# Altium footprint library PcbLib1.PcbLib: 264 footprints (part 9 of 17)
Each footprint in its own frame and in the unit in brackets; x right, y up, seen from the top. Pads: shape width x height; smd on the part's side, far side on the other; paste and mask are expansions set on the pad; w line width, h text height; cw(c..) or ccw(c..) is an arc to the next point about the centre after c.
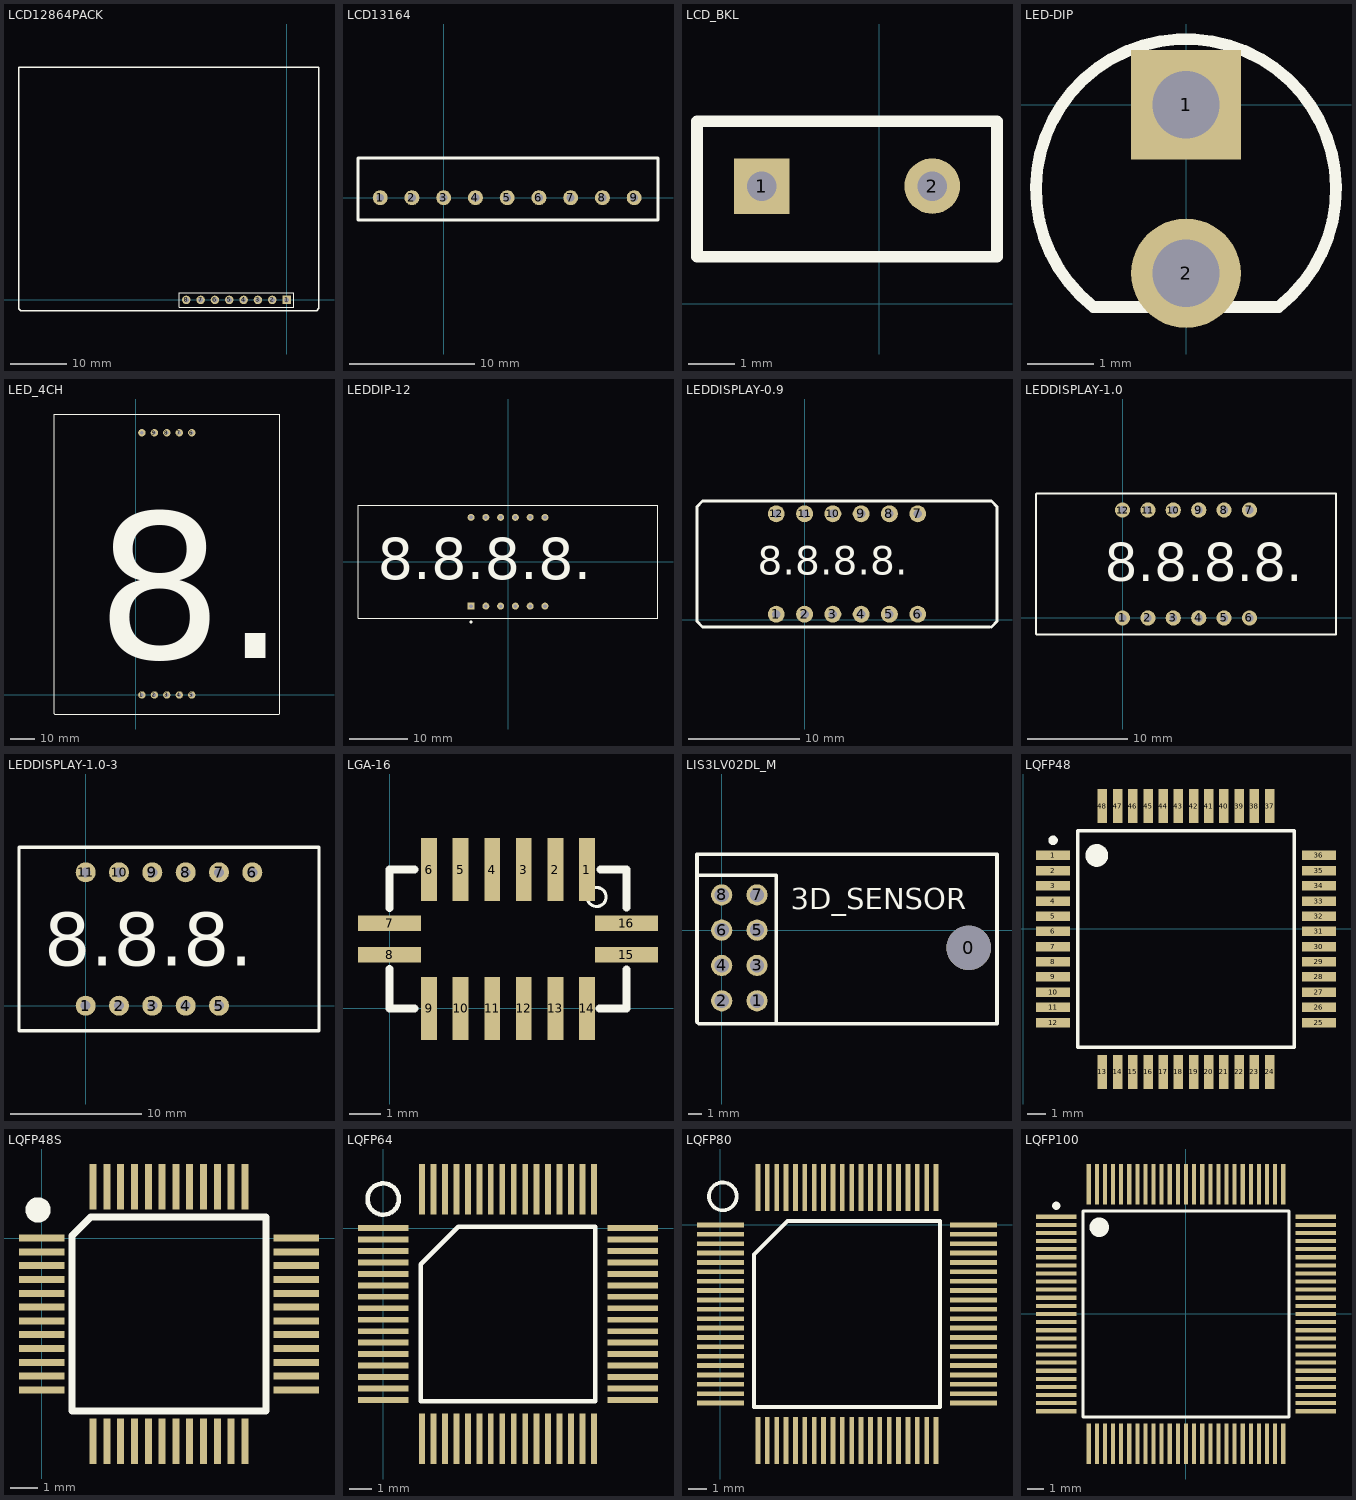
[diagram p8: the footprints below, top view; thin cyan lines are the x and y axes]

## LCD12864PACK [mm] "LCD12864"
pads (8):
  rect 1.5x1.5 hole 0.9: 1(0,0)
  round 1.5 hole 0.9: 2(-2.54,0) 3(-5.08,0) 4(-7.62,0) 5(-10.16,0) 6(-12.7,0) 7(-15.24,0) 8(-17.78,0)
Top Overlay:
  lines w0.2: -19.05,-1.27 -19.05,1.27 1.27,1.27 1.27,-1.27 -19.05,-1.27
  lines w0.254: -47.447,3.65 -47.447,41.247 5.753,41.247 ; -47.447,5.08 -47.447,-1.575 -47.117,-1.905 5.334,-1.905 5.753,-1.486 5.753,41.247 ; 5.753,3.683 5.753,41.247

## LCD13164 [mm] "LCD13164"
height 10
pads (9):
  round 1.2 hole 0.635: 1(-5.08,0) 2(-2.54,0) 3(0,0) 4(2.54,0) 5(5.08,0) 6(7.62,0) 7(10.16,0) 8(12.7,0) 9(15.24,0)
Top Overlay:
  lines w0.254: -2.794,-1.778 16.891,-1.778 ; -2.54,-1.778 -6.858,-1.778 -6.858,3.175 17.145,3.175 17.145,-1.524 17.145,-1.778 16.637,-1.778

## LCD_BKL [mm] "LCD_BACK_LIGHT"
height 4
pads (2):
  rect 1.2x1.2 hole 0.635: 1(-2.54,2.54)
  round 1.2 hole 0.635: 2(1.143,2.54)
Top Overlay:
  lines w0.254: -3.937,2.667 -3.937,3.937 2.54,3.937 2.54,1.016 -3.937,1.016 -3.937,3.81

## LED-DIP [mil] "PIN:2.54MM;H:5MM;"
height 196.85
pads (2):
  rect 65x65 hole 40: 1(0,0)
  round 65 hole 40: 2(0,-100)
Top Overlay:
  lines w7: -55,-120 cw(c0,-50) 55,-120 -55,-120

## LED_4CH [mm] "LED_4CH"
height 1.5
pads (10):
  round 3 hole 1.5: 1(2.54,0) 2(7.62,0) 3(12.7,0) 4(17.78,0) 5(22.86,0) 6(22.86,106.68) 7(17.78,106.68) 8(12.7,106.68) 9(7.62,106.68) 10(2.54,106.68)
Top Overlay:
  lines w0.254: 58.42,-7.747 -32.893,-7.747 -33.02,-7.62 -33.02,-6.604 -33.02,7.62 -33.02,114.3 58.547,114.3 58.547,-7.62
  text "8." at -16.002,14.859 h76.2

## LEDDIP-12 [mm] "LED, 7-Segment Display; 12 Pins; Row Space 15.24 mm; Pitch 2.54 mm"
height 8.26
pads (12):
  rect 1.2x1.2 hole 0.635: 1(-6.35,-7.62)
  round 1.2 hole 0.635: 2(-3.81,-7.62) 3(-1.27,-7.62) 4(1.27,-7.62) 5(3.81,-7.62) 6(6.35,-7.62) 7(6.35,7.62) 8(3.81,7.62) 9(1.27,7.62) 10(-1.27,7.62) 11(-3.81,7.62) 12(-6.35,7.62)
Top Overlay:
  circle w0.25: c-6.35,-10.35 r0.125
  lines w0.2: -25.75,-9.7 25.75,-9.7 25.75,9.7 -25.75,9.7 -25.75,-9.7
  text "8.8.8.8." at -22.352,-3.048 h7

## LEDDISPLAY-0.9 [mil]
height 19.68
pads (12):
  round 60 hole 30: 1(-100,20) 2(0,20) 3(100,20) 4(200,20) 5(300,20) 6(400,20) 7(400,375) 8(300,375) 9(200,375) 10(100,375) 11(0,375) 12(-100,375)
Top Overlay:
  lines w10: 655,-25 -360,-25 -380,-5 -380,400 -360,420 660,420 680,400 680,-5 660,-25
  text "8.8.8.8." at -165,160 h100

## LEDDISPLAY-1.0 [mil]
pads (12):
  round 60 hole 30: 1(0,0) 2(100,0) 3(200,0) 4(300,0) 5(400,0) 6(500,0) 7(500,425) 8(400,425) 9(300,425) 10(200,425) 11(100,425) 12(0,425)
Top Overlay:
  lines w7: 840.55,-65 -340,-65 -340.55,-64.45 -340.55,0 -340.55,489.45 -340,490 840.55,490 ; 840.55,-64.45 840.55,0 840.55,489.45
  text "8.8.8.8." at -70,145 h150

## LEDDISPLAY-1.0-3 [mil] "PLTT-3361AS"
height 275.59
pads (11):
  round 60 hole 30: 1(0,0) 2(100,0) 3(200,0) 4(300,0) 5(400,0) 6(500,400) 7(400,400) 8(300,400) 9(200,400) 10(100,400) 11(0,400)
Top Overlay:
  lines w10: -200,-75 700,-75 700,475 -200,475 -200,-75
  text "8.8.8." at -125,120 h160

## LGA-16 [mm] "ECOPACK"
height 1
pads (16):
  rect 0.5x2 smd: 1(6.25,4.4) 2(5.25,4.4) 3(4.25,4.4) 4(3.25,4.4) 5(2.25,4.4) 6(1.25,4.4) 9(1.25,0) 10(2.25,0) 11(3.25,0) 12(4.25,0) 13(5.25,0) 14(6.25,0)
  rect 2x0.5 smd: 7(0,2.7) 8(0,1.7) 15(7.5,1.7) 16(7.5,2.7)
Top Overlay:
  circle w0.1: c6.558,3.531 r0.3
  lines w0.254: 0,1.245 0,0 0.787,0 ; 0,3.175 0,4.4 0.782,4.4 ; 6.655,0 7.5,0 7.5,1.238 ; 6.686,4.4 7.5,4.4 7.5,3.193

## LIS3LV02DL_M [mil] "LIS3LV02DL"
height 590.55
pads (9):
  round 125.98 hole 125.98: 0(700,-50)
  round 60 hole 40: 1(100,-200) 2(0,-200) 3(100,-100) 4(0,-100) 5(100,0) 6(0,0) 7(100,100) 8(0,100)
Top Overlay:
  lines w10: -70,155 155,155 155,-265 ; -20,215 700,215 780,215 780,-265 700,-265 -45,-265 -65,-265 -70,-260 -70,200 -70,215 0,215 ; 780,-260 780,200
  text "3D_SENSOR" at 195,60 h60

## LQFP48 [mm] "DPIN-0.8MM"
height 1
pads (48):
  rect 1.8x0.5 smd: 1(1.56,3.867) 2(1.56,3.067) 3(1.56,2.267) 4(1.56,1.467) 5(1.56,0.667) 6(1.56,-0.133) 7(1.56,-0.933) 8(1.56,-1.733) 9(1.56,-2.533) 10(1.56,-3.333) 11(1.56,-4.133) 12(1.56,-4.933) 25(15.56,-4.933) 26(15.56,-4.133) 27(15.56,-3.333) 28(15.56,-2.533) 29(15.56,-1.733) 30(15.56,-0.933) 31(15.56,-0.133) 32(15.56,0.667) 33(15.56,1.467) 34(15.56,2.267) 35(15.56,3.067) 36(15.56,3.867)
  rect 0.5x1.8 smd: 13(4.16,-7.533) 14(4.96,-7.533) 15(5.76,-7.533) 16(6.56,-7.533) 17(7.36,-7.533) 18(8.16,-7.533) 19(8.96,-7.533) 20(9.76,-7.533) 21(10.56,-7.533) 22(11.36,-7.533) 23(12.16,-7.533) 24(12.96,-7.533) 37(12.96,6.467) 38(12.16,6.467) 39(11.36,6.467) 40(10.56,6.467) 41(9.76,6.467) 42(8.96,6.467) 43(8.16,6.467) 44(7.36,6.467) 45(6.56,6.467) 46(5.76,6.467) 47(4.96,6.467) 48(4.16,6.467)
Top Overlay:
  circle w0.25: c1.56,4.667 r0.125
  circle w0.6: c3.86,3.867 r0.3
  lines w0.2: 2.86,-6.233 14.26,-6.233 14.26,5.167 2.86,5.167 2.86,-6.233

## LQFP48S [mil] "DPIN-0.5"
height 39.37
pads (48):
  rect 65x10 smd: 1(0.42,0.29) 2(0.42,-19.39) 3(0.42,-39.08) 4(0.42,-58.76) 5(0.42,-78.45) 6(0.42,-98.13) 7(0.42,-117.82) 8(0.42,-137.5) 9(0.42,-157.19) 10(0.42,-176.87) 11(0.42,-196.56) 12(0.42,-216.24) 25(362.63,-216.24) 26(362.63,-196.56) 27(362.63,-176.87) 28(362.63,-157.19) 29(362.63,-137.5) 30(362.63,-117.82) 31(362.63,-98.13) 32(362.63,-78.45) 33(362.63,-58.76) 34(362.63,-39.08) 35(362.63,-19.39) 36(362.63,0.29)
  rect 10x65 smd: 13(73.26,-289.08) 14(92.94,-289.08) 15(112.63,-289.08) 16(132.31,-289.08) 17(152,-289.08) 18(171.68,-289.08) 19(191.37,-289.08) 20(211.05,-289.08) 21(230.74,-289.08) 22(250.42,-289.08) 23(270.11,-289.08) 24(289.79,-289.08) 37(289.79,73.13) 38(270.11,73.13) 39(250.42,73.13) 40(230.74,73.13) 41(211.05,73.13) 42(191.37,73.13) 43(171.68,73.13) 44(152,73.13) 45(132.31,73.13) 46(112.63,73.13) 47(92.94,73.13) 48(73.26,73.13)
Top Overlay:
  circle w25: c-4.93,40.29 r5.35
  lines w10: 43.73,-245.77 319.32,-245.77 319.32,29.82 69.95,29.82 43.73,3.6 43.73,-245.77

## LQFP64 [mm] "LQFP64"
height 2
pads (64):
  rect 2.2x0.254 smd: 1(0,0) 2(0,-0.5) 3(0,-1) 4(0,-1.5) 5(0,-2) 6(0,-2.5) 7(0,-3) 8(0,-3.5) 9(0,-4) 10(0,-4.5) 11(0,-5) 12(0,-5.5) 13(0,-6) 14(0,-6.5) 15(0,-7) 16(0,-7.5) 33(10.9,-7.5) 34(10.9,-7) 35(10.9,-6.5) 36(10.9,-6) 37(10.9,-5.5) 38(10.9,-5) 39(10.9,-4.5) 40(10.9,-4) 41(10.9,-3.5) 42(10.9,-3) 43(10.9,-2.5) 44(10.9,-2) 45(10.9,-1.5) 46(10.9,-1) 47(10.9,-0.5) 48(10.9,0)
  rect 0.254x2.2 smd: 17(1.7,-9.2) 18(2.2,-9.2) 19(2.7,-9.2) 20(3.2,-9.2) 21(3.7,-9.2) 22(4.2,-9.2) 23(4.7,-9.2) 24(5.2,-9.2) 25(5.7,-9.2) 26(6.2,-9.2) 27(6.7,-9.2) 28(7.2,-9.2) 29(7.7,-9.2) 30(8.2,-9.2) 31(8.7,-9.2) 32(9.2,-9.2) 49(9.2,1.7) 50(8.7,1.7) 51(8.2,1.7) 52(7.7,1.7) 53(7.2,1.7) 54(6.7,1.7) 55(6.2,1.7) 56(5.7,1.7) 57(5.2,1.7) 58(4.7,1.7) 59(4.2,1.7) 60(3.7,1.7) 61(3.2,1.7) 62(2.7,1.7) 63(2.2,1.7) 64(1.7,1.7)
Top Overlay:
  circle w0.2: c0,1.27 r0.684
  lines w0.2: 1.635,-7.565 9.265,-7.565 9.265,0.065 3.27,0.065 1.635,-1.57 1.635,-7.565

## LQFP80 [mm]
height 1
pads (80):
  rect 2.5x0.254 smd: 1(0,0) 2(0,-0.5) 3(0,-1) 4(0,-1.5) 5(0,-2) 6(0,-2.5) 7(0,-3) 8(0,-3.5) 9(0,-4) 10(0,-4.5) 11(0,-5) 12(0,-5.5) 13(0,-6) 14(0,-6.5) 15(0,-7) 16(0,-7.5) 17(0,-8) 18(0,-8.5) 19(0,-9) 20(0,-9.5) 41(13.5,-9.5) 42(13.5,-9) 43(13.5,-8.5) 44(13.5,-8) 45(13.5,-7.5) 46(13.5,-7) 47(13.5,-6.5) 48(13.5,-6) 49(13.5,-5.5) 50(13.5,-5) 51(13.5,-4.5) 52(13.5,-4) 53(13.5,-3.5) 54(13.5,-3) 55(13.5,-2.5) 56(13.5,-2) 57(13.5,-1.5) 58(13.5,-1) 59(13.5,-0.5) 60(13.5,0)
  rect 0.254x2.5 smd: 21(2,-11.5) 22(2.5,-11.5) 23(3,-11.5) 24(3.5,-11.5) 25(4,-11.5) 26(4.5,-11.5) 27(5,-11.5) 28(5.5,-11.5) 29(6,-11.5) 30(6.5,-11.5) 31(7,-11.5) 32(7.5,-11.5) 33(8,-11.5) 34(8.5,-11.5) 35(9,-11.5) 36(9.5,-11.5) 37(10,-11.5) 38(10.5,-11.5) 39(11,-11.5) 40(11.5,-11.5) 61(11.5,2) 62(11,2) 63(10.5,2) 64(10,2) 65(9.5,2) 66(9,2) 67(8.5,2) 68(8,2) 69(7.5,2) 70(7,2) 71(6.5,2) 72(6,2) 73(5.5,2) 74(5,2) 75(4.5,2) 76(4,2) 77(3.5,2) 78(3,2) 79(2.5,2) 80(2,2)
Top Overlay:
  circle w0.2: c0.127,1.524 r0.741
  lines w0.2: 1.785,-9.715 11.715,-9.715 11.715,0.215 3.57,0.215 1.785,-1.57 1.785,-9.715

## LQFP100 [mm] "TSQFP, 100-Leads, Body 16.0x16.0mm (max), Pitch 0.50mm, IPC Medium Density"
height 1.5
pads (100):
  rect 2.5x0.254 smd: 1(-8,6) 2(-8,5.5) 3(-8,5) 4(-8,4.5) 5(-8,4) 6(-8,3.5) 7(-8,3) 8(-8,2.5) 9(-8,2) 10(-8,1.5) 11(-8,1) 12(-8,0.5) 13(-8,0) 14(-8,-0.5) 15(-8,-1) 16(-8,-1.5) 17(-8,-2) 18(-8,-2.5) 19(-8,-3) 20(-8,-3.5) 21(-8,-4) 22(-8,-4.5) 23(-8,-5) 24(-8,-5.5) 25(-8,-6) 51(8,-6) 52(8,-5.5) 53(8,-5) 54(8,-4.5) 55(8,-4) 56(8,-3.5) 57(8,-3) 58(8,-2.5) 59(8,-2) 60(8,-1.5) 61(8,-1) 62(8,-0.5) 63(8,0) 64(8,0.5) 65(8,1) 66(8,1.5) 67(8,2) 68(8,2.5) 69(8,3) 70(8,3.5) 71(8,4) 72(8,4.5) 73(8,5) 74(8,5.5) 75(8,6)
  rect 0.254x2.5 smd: 26(-6,-8) 27(-5.5,-8) 28(-5,-8) 29(-4.5,-8) 30(-4,-8) 31(-3.5,-8) 32(-3,-8) 33(-2.5,-8) 34(-2,-8) 35(-1.5,-8) 36(-1,-8) 37(-0.5,-8) 38(0,-8) 39(0.5,-8) 40(1,-8) 41(1.5,-8) 42(2,-8) 43(2.5,-8) 44(3,-8) 45(3.5,-8) 46(4,-8) 47(4.5,-8) 48(5,-8) 49(5.5,-8) 50(6,-8) 76(6,8) 77(5.5,8) 78(5,8) 79(4.5,8) 80(4,8) 81(3.5,8) 82(3,8) 83(2.5,8) 84(2,8) 85(1.5,8) 86(1,8) 87(0.5,8) 88(0,8) 89(-0.5,8) 90(-1,8) 91(-1.5,8) 92(-2,8) 93(-2.5,8) 94(-3,8) 95(-3.5,8) 96(-4,8) 97(-4.5,8) 98(-5,8) 99(-5.5,8) 100(-6,8)
Top Overlay:
  circle w0.25: c-8,6.675 r0.125
  circle w0.6: c-5.35,5.35 r0.3
  lines w0.2: -6.35,-6.35 -6.35,6.35 6.35,6.35 6.35,-6.35 -6.35,-6.35